# Altium schematic symbol library IFS_Altium.SchLib: 32 symbols
Pins are listed as number, name and electrical type; pins without a type are passive.

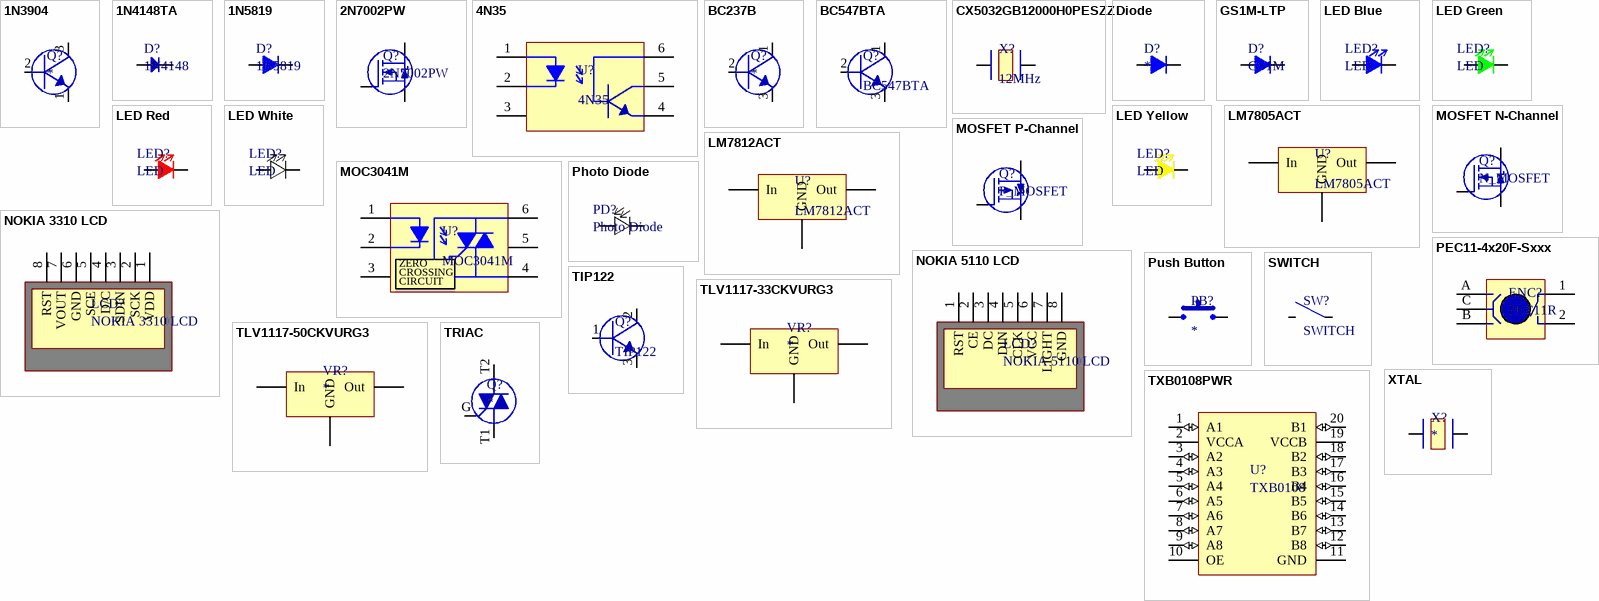
[diagram p0: symbols 1N3904 to XTAL]

## 1N3904
designator Q?
1N3904 NPN Transistor
footprint TO92-2.54 (TO92, 2.54 pitch)
pins: 1, 2, 3

## 1N4148TA
designator D?, comment 1N4148
Diodes - General Purpose, Power, Switching Hi Conductance Fast; Manufacturer: Fairchild Semiconductor; Manufacturer Part Number: 1N4148TA; Configuration: Single; Forward Continuous Current: 0.2 A; Max Surge Current: 4 A; Recovery Time: 4 ns; Forward Voltage Drop: 1 V; Maximum Power Dissipation: 0.5 W; Peak Reverse Voltage: 100 V; Supplier 1: Mouser; RoHS: RoHS Compliant By Exemption; Category: Diodes - General Purpose, Power, Switching; Stock 1: 400430; Pricing 1: 1=0.080, 10=0.041, 100=0.014, 1000=0.010, 5000=0.007, 10000=0.006, 50000=0.005 (EUR); Package/Case: DO-35; Packaging: Ammo; Product: Switching Diodes; Series: 1N4148; Mounting Style: Through Hole; Maximum Operating Temperature: + 175 C; Minimum Operating Temperature: - 65 C; Product Category: Diodes - Small Signal; Standard Pack Qty: 5000; RoHS - Mouser: E; Minimum Order Quantity: 1; Reeling: False; ComponentLink1URL: http://www.fairchildsemi.com/ds/1N/1N4148.pdf; ComponentLink1Description: http://www.fairchildsemi.com/ds/1N/1N4148.pdf
footprint DO-35 Glass (DO-35 Glass 4mils)
pins: 1, 2

## 1N5819
designator D?
Schottky diode
footprint DO-214AC (DO-214AC, SMA)
pins: 1, 2

## 2N7002PW
designator Q?
MOSFET 60V 0.3A N-CHANNEL TRENCH MOSFET; Manufacturer: NXP Semiconductors; Manufacturer Part Number: 2N7002PW,115; Configuration: Single; Continuous Drain Current: 310 mA; Rds On: 1 Ohms; Fall Time: 4 ns; Pd - Power Dissipation: 260 mW; Qg - Gate Charge: 0.6 nC; Typical Turn-Off Delay Time: 10 ns; Vgs - Gate-Source Breakdown Voltage: 20 V; Supplier 1: Mouser; RoHS: RoHS Compliant; Category: MOSFET; Stock 1: 55183; Pricing 1: 1=0.256, 10=0.170, 100=0.071, 1000=0.049, 3000=0.037, 9000=0.031, 24000=0.030, 45000=0.027, 99000=0.024 (EUR); Package/Case: SOT-323; Packaging: Reel; Brand: NXP Semiconductors; Drain-Source Breakdown Voltage: 60 V; Mounting Style: SMD/SMT; Transistor Polarity: N-Channel; Maximum Operating Temperature: + 150 C; Minimum Operating Temperature: - 55 C; Rise Time: 4 ns; Standard Pack Qty: 3000; RoHS - Mouser: Y; Minimum Order Quantity: 1; Reeling: True; ComponentLink1URL: http://www.mouser.com/ds/2/302/2N7002PW-99426.pdf; ComponentLink1Description: http://www.mouser.com/ds/2/302/2N7002PW-99426.pdf; Supplier Part Number 1: 771-2N7002PW-115
footprint SOT323 (SOT323, 3 pins)
pins: 1 G, 2 S, 3 D

## 4N35
designator U?
Transistor Output Optocouplers PTR 100%, 3.5KV; Manufacturer: Lite-On; Input Type: DC; Isolation Voltage: 3550 Vrms; Output Device: NPN Phototransistor; Maximum Collector Current: 100 mA; Maximum Collector Emitter Saturation Voltage: 0.3 V; Maximum Collector Emitter Voltage: 30 V; Maximum Forward Diode Voltage: 1.5 V; Maximum Input Diode Current: 60 mA; Maximum Power Dissipation: 350 mW; Maximum Reverse Diode Voltage: 6 V; Number of Channels per Chip: 1 Channel; Supplier 1: Mouser; Manufacturer Part Number: 4N35; RoHS: RoHS Compliant; Category: Transistor Output Optocouplers; Stock 1: 2201; Pricing 1: 1=0.184, 10=0.160, 50=0.146, 100=0.132, 500=0.114, 1000=0.090, 2000=0.083, 5000=0.075, 10000=0.070 (EUR); Output Type: DC; Package/Case: PDIP-6; Packaging: Tube; Brand: Lite-On; Maximum Operating Temperature: + 100 C; Minimum Operating Temperature: - 55 C; Product Category: Optocomponents; Standard Pack Qty: 65; RoHS - Mouser: Y; Minimum Order Quantity: 1; Reeling: False; ComponentLink1URL: http://optoelectronics.liteon.com/en-us/api/DwonloadFileHandler.ashx?txtSpecNo=DS-70-99-0012; ComponentLink1Description: http://optoelectronics.liteon.com/en-us/api/DwonloadFileHandler.ashx?txtSpecNo=DS-70-99-0012
footprint PDIP6-300
pins: 1 (power), 2, 3, 4, 5, 6

## BC237B
designator Q?
BC237B NPN Transistor
footprint TO92-2.54 (TO92, 2.54 pitch)
pins: 1, 2, 3

## BC547BTA
designator Q?
TRANS NPN 45V 100MA TO-92; Manufacturer: Fairchild Semiconductor; Vce Saturation (Max) @ Ib, Ic: 600mV @ 5mA, 100mA; DC Current Gain (hFE) (Min) @ Ic, Vce: 200 @ 2mA, 5V; Power - Max: 500mW; Frequency - Transition: 300MHz; Supplier 1: Digi-Key; Manufacturer Part Number: BC547BTA; RoHS: RoHS Compliant; Category: Discrete Semiconductor Products; Stock 1: 9639; Pricing 1: 1=0.17, 10=0.156, 25=0.1424, 100=0.1023, 250=0.06028, 500=0.05002, 1000=0.03411 (EUR); Packaging: Cut Tape (CT); Transistor Type: NPN; Current - Collector (Ic) (Max): 100mA; Voltage - Collector Emitter Breakdown (Max): 45V; Current - Collector Cutoff (Max): -; Mounting Type: Through Hole; Package / Case: TO-226-3, TO-92-3 (TO-226AA) Formed Leads; Supplier Device Package: TO-92-3; ComponentLink1URL: http://www.fairchildsemi.com/datasheets/BC/BC546.pdf; ComponentLink1Description: http://www.fairchildsemi.com/datasheets/BC/BC546.pdf
footprint TO92-2.54 (TO92, 2.54 pitch)
pins: 1, 2, 3

## CX5032GB12000H0PESZZ
designator X?, comment 12MHz
Crystals 12000kHz 12pF; Manufacturer: AVX; Manufacturer Part Number: CX5032GB12000H0PESZZ; Frequency Stability: 20 PPM; Supplier 1: Mouser; RoHS: RoHS Compliant; Category: Crystals; Stock 1: 14120; Pricing 1: 1=2.05, 10=1.28, 100=0.945, 500=0.824, 1000=0.817, 2000=0.743 (AUD); Dimensions: 3.2 mm W x 5 mm L x 1 mm H; Frequency: 12 MHz; Load Capacitance: 12 pF; Operating Temperature Range: - 10 C to + 70 C; Package / Case: 5 mm x 3.2 mm; Packaging: Reel; Series: CX5032GB; Termination Style: SMD/SMT; Tolerance: 20 PPM; Brand: AVX; Mounting Style: SMD/SMT; Product Category: SMD Crystal; Standard Pack Qty: 1000; RoHS - Mouser: Y; Minimum Order Quantity: 1; Reeling: True; ComponentLink1URL: http://www.mouser.com/ds/2/40/102_e-5609.pdf; ComponentLink1Description: http://www.mouser.com/ds/2/40/102_e-5609.pdf
footprint 2-SMD
pins: 1, 2

## Diode
designator D?
Diode, generic
pins: 1, 2

## GS1M-LTP
designator D?, comment GS1M
Rectifiers 1000V,1A; Manufacturer: Micro Commercial Components (MCC); Manufacturer Part Number: GS1M-LTP; Max Surge Current: 30 A; Reverse Current IR: 10 uA; Supplier 1: Mouser; RoHS: RoHS Compliant; Category: Rectifiers; Stock 1: 14430; Pricing 1: 1=0.224, 10=0.148, 100=0.062, 1000=0.042, 5000=0.032, 7500=0.027, 22500=0.026, 45000=0.024, 97500=0.021 (EUR); Package/Case: DO-214AC; Packaging: Reel; Product: Standard Recovery Rectifiers; Series: GS1M; Forward Continuous Current: 1 A; Mounting Style: SMD/SMT; Reverse Voltage: 1000 V; Maximum Operating Temperature: + 150 C; RoHS - Mouser: Y; Minimum Order Quantity: 1; Reeling: True; ComponentLink1URL: http://www.mouser.com/ds/2/258/GS1A-GS1M(HSMA)-8668.pdf; ComponentLink1Description: http://www.mouser.com/ds/2/258/GS1A-GS1M(HSMA)-8668.pdf
footprint DO-214AC (DO-214AC, SMA)
pins: 1, 2

## LED Blue
designator LED?, comment LED
LED Blue
footprint LED Blue 3mm TH V
pins: 1, 2

## LED Green
designator LED?, comment LED
LED Green
footprint LED Green 3mm TH V
pins: 1, 2

## LED Red
designator LED?, comment LED
LED Red
footprint LED Red 3mm TH V
pins: 1, 2

## LED White
designator LED?, comment LED
LED White
footprint LED White 3mm TH V
pins: 1, 2

## LED Yellow
designator LED?, comment LED
LED Yellow
footprint LED Yellow 3mm TH V
pins: 1, 2

## LM7805ACT
designator U?
IC REG LDO 5V 1A TO220-3; Manufacturer: Fairchild Semiconductor; Regulator Topology: Positive Fixed; Voltage - Dropout (Typical): 2V @ 1A; Number of Regulators: 1; Voltage - Input: Up to 35V; Supplier 1: Digi-Key; Manufacturer Part Number: LM7805ACT; RoHS: RoHS Compliant; Category: Integrated Circuits (ICs); Stock 1: 2136; Pricing 1: 1=0.57, 10=0.481, 25=0.4208, 100=0.3607, 250=0.31264, 500=0.26454, 1000=0.20442, 2500=0.18638, 5000=0.17436 (EUR); Packaging: Tube; Voltage - Output: 5V; Current - Output: 1A; Current - Limit (Min): -; Operating Temperature: 0°C ~ 125°C; Mounting Type: Through Hole; Package / Case: TO-220-3; Supplier Device Package: TO-220-3; ComponentLink1URL: http://www.fairchildsemi.com/datasheets/LM/LM7805.pdf; ComponentLink1Description: http://www.fairchildsemi.com/datasheets/LM/LM7805.pdf
footprint TO220-3 (TO220, 3 Pins)
pins: 1 In (power), 2 GND (power), 3 Out (power)

## LM7812ACT
designator U?
IC REG LDO 12V 1A TO220-3; Manufacturer: Fairchild Semiconductor; Regulator Topology: Positive Fixed; Voltage - Dropout (Typical): 2V @ 1A; Number of Regulators: 1; Voltage - Input: Up to 35V; Supplier 1: Digi-Key; Manufacturer Part Number: LM7812ACT; RoHS: RoHS Compliant; Category: Integrated Circuits (ICs); Stock 1: 5681; Pricing 1: 1=0.59, 10=0.493, 25=0.4312, 100=0.3697, 250=0.3204, 500=0.27108, 1000=0.20947, 2500=0.19099, 5000=0.17867 (EUR); Packaging: Tube; Voltage - Output: 12V; Current - Output: 1A; Current - Limit (Min): -; Operating Temperature: 0°C ~ 125°C; Mounting Type: Through Hole; Package / Case: TO-220-3; Supplier Device Package: TO-220-3; ComponentLink1URL: http://www.fairchildsemi.com/datasheets/LM/LM7805.pdf; ComponentLink1Description: http://www.fairchildsemi.com/datasheets/LM/LM7805.pdf
footprint TO220-3 (TO220, 3 Pins)
pins: 1 In (power), 2 GND (power), 3 Out (power)

## MOC3041M
designator U?
Triac & SCR Output Optocouplers DIP-6 ZERO TRIAC; Manufacturer: Fairchild Semiconductor; Isolation Voltage: 5250 Vrms; Output Device: PhotoTriac; Output Type: AC; Forward Current: 60 mA; Forward Voltage: 1.25 V; Power Dissipation: 250 mW; Maximum Trigger Current: 15 mA; Number of Channels per Chip: 1 Channel; Off-state Output Voltage - VDRM: 400 V; Zero-Crossing Circuit: With Zero-Crossing Circuit; Zero-Crossing Voltage: 20 V; Supplier 1: Mouser; Manufacturer Part Number: MOC3041M; RoHS: RoHS Compliant; Category: Triac & SCR Output Optocouplers; Stock 1: 3450; Pricing 1: 1=0.672, 10=0.520, 100=0.336, 1000=0.269, 5000=0.226, 10000=0.218, 25000=0.210, 50000=0.206 (EUR); Package/Case: PDIP-6; Packaging: Bulk; Series: MOC3041M; Brand: Fairchild Semiconductor; Maximum Operating Temperature: + 85 C; Minimum Operating Temperature: - 40 C; Standard Pack Qty: 1000; RoHS - Mouser: Y; Minimum Order Quantity: 1; Reeling: False; ComponentLink1URL: http://www.mouser.com/ds/2/149/MOC3041M-195885.pdf; ComponentLink1Description: http://www.mouser.com/ds/2/149/MOC3041M-195885.pdf
footprint PDIP6-300-W (PDIP6-300 White)
pins: 1 (power), 2, 3, 4, 5, 6
text: ZERO; CROSSING; CIRCUIT

## MOSFET N-Channel
designator Q?, comment N_MOSFET
Generic N-Channel MOSFET
footprint SOT323 (SOT323, 3 pins)
pins: 1 G, 2 S, 3 D

## MOSFET P-Channel
designator Q?, comment P_MOSFET
Generic P-Channel MOSFET
footprint SOT323 (SOT323, 3 pins)
pins: 1 G, 2 S, 3 D

## NOKIA 3310 LCD
designator LCD?
footprint NOKIA 3310 LCD
pins: 1 VDD, 2 SCK, 3 SDIN, 4 D/C, 5 SCE, 6 GND, 7 VOUT, 8 RST

## NOKIA 5110 LCD
designator LCD?
footprint NOKIA 5110 LCD
pins: 1 RST, 2 CE, 3 DC, 4 DIN, 5 CLK, 6 VCC, 7 LIGHT, 8 GND

## PEC11-4x20F-Sxxx
designator ENC?, comment PEC11R
Encoders 20mm SHAFT w/SWITCH; Manufacturer: Bourns; Manufacturer Part Number: PEC11R-4220F-S0024; Number of Detents: 24; Output: Quadrature; Resolution: 24 PPR; With Switch: Switch; Number of Channels: 2 Channel; Shaft Type: Flatted; Product Status: New Product; Supplier 1: Mouser; RoHS: RoHS Compliant; Category: Encoders; Stock 1: 746; Pricing 1: 1=1.18, 10=0.968, 50=0.848, 100=0.734, 250=0.729, 500=0.715 (EUR); Operating Temperature Range: - 30 C to + 70 C; Packaging: Bulk; Product: Mechanical Encoders; Series: PEC11R; Type: Incremental; Brand: Bourns; Product Category: Encoders; Standard Pack Qty: 75; RoHS - Mouser: Y; Minimum Order Quantity: 1; Reeling: False; ComponentLink1URL: http://www.bourns.com/data/global/pdfs/PEC11R.pdf; ComponentLink1Description: http://www.bourns.com/data/global/pdfs/PEC11R.pdf
footprint PEC11-4x20F-Sxxx (Incrmental Encoder with momentary puch switch)
pins: 1, 2, A, B, C, GND (power) hidden to GND

## Photo Diode
designator PD?
footprint LED White 3mm TH V
pins: 1, 2

## Push Button
designator PB?
Push Button
footprint Tack Switch 6x6 1mm TH (Tack Switch 6x6mm, 1mm button height TH)
pins: 1, 2

## SWITCH
designator SW?
Switch, generic
footprint 1x2x5.08 Pin Header TH V
pins: 1, 2

## TIP122
designator Q?
TRANS NPN DARL 100V 5A TO-220; Manufacturer: Fairchild Semiconductor; Transistor Type: NPN - Darlington; Vce Saturation (Max) @ Ib, Ic: 4V @ 20mA, 5A; Current - Collector Cutoff (Max): 500µA; DC Current Gain (hFE) (Min) @ Ic, Vce: 1000 @ 3A, 3V; Power - Max: 2W; Supplier 1: Digi-Key; Manufacturer Part Number: TIP122; RoHS: RoHS Compliant; Category: Discrete Semiconductor Products; Stock 1: 2150; Pricing 1: 1=0.56, 10=0.487, 25=0.4312, 100=0.3756, 250=0.32688, 500=0.2782, 1000=0.22256, 2500=0.2017, 5000=0.18778 (EUR); Packaging: Bulk; Current - Collector (Ic) (Max): 5A; Voltage - Collector Emitter Breakdown (Max): 100V; Frequency - Transition: -; Mounting Type: Through Hole; Package / Case: TO-220-3; Supplier Device Package: TO-220; ComponentLink1URL: http://www.fairchildsemi.com/datasheets/TI/TIP122.pdf; ComponentLink1Description: http://www.fairchildsemi.com/datasheets/TI/TIP122.pdf
footprint TO220-3 (TO220, 3 Pins)
pins: 1, 2, 3

## TLV1117-33CKVURG3
designator VR?
LDO Voltage Regulators Sgl Output LDO 800mA Fixed Int Crnt limit; Manufacturer: Texas Instruments; Input Bias Current - Max: 5 mA; Input Voltage MAX: 15 V; Number of Outputs: 1 Output; Output Voltage: 3.3 V; Dropout Voltage - Max: 1.2 V at 100 mA, 1.25 V at 500 mA, 1.3 V at 800 mA; Input Voltage MIN: + 4.7 V; Line Regulation: 0.2 %; Load Regulation: 0.4 %; Supplier 1: Mouser; RoHS: RoHS Compliant; Category: LDO Voltage Regulators; Stock 1: 2731; Pricing 1: 1=0.624, 10=0.496, 100=0.370, 500=0.272, 1000=0.248, 2500=0.210, 10000=0.202 (EUR); Output Current: 800 mA; Output Type: Fixed; Package/Case: TO-252-3; Packaging: Reel; Series: TLV1117-33; Mounting Style: SMD/SMT; Maximum Operating Temperature: + 125 C; Minimum Operating Temperature: 0 C; Product Category: Regulators - Standard; Standard Pack Qty: 2500; RoHS - Mouser: Y; Minimum Order Quantity: 1; Reeling: True; ComponentLink1URL: http://www.ti.com/litv/slvs561k; ComponentLink1Description: http://www.ti.com/litv/slvs561k; Supplier Part Number 1: 595-TLV111733CKVURG3
footprint TO252-2 (TO252, 2 Pins)
pins: 1 GND, 2 Out, 3 In

## TLV1117-50CKVURG3
designator VR?
LDO Voltage Regulators Sgl Output LDO 800mA Fixed Int Crnt limit; Manufacturer: Texas Instruments; Manufacturer Part Number: TLV1117-50CKVURG3; Input Bias Current - Max: 5 mA; Input Voltage MAX: 15 V; Number of Outputs: 1 Output; Output Voltage: 5 V; Dropout Voltage - Max: 1.2 V at 100 mA, 1.25 V at 500 mA, 1.3 V at 800 mA; Input Voltage MIN: + 6.4 V; Line Regulation: 0.2 %; Load Regulation: 0.4 %; Supplier 1: Mouser; RoHS: RoHS Compliant; Category: LDO Voltage Regulators; Stock 1: 3405; Pricing 1: 1=0.624, 10=0.496, 100=0.370, 500=0.272, 1000=0.248, 2500=0.210, 10000=0.202 (EUR); Output Current: 800 mA; Output Type: Fixed; Package/Case: TO-252-3; Packaging: Reel; Series: TLV1117-50; Brand: Texas Instruments; Mounting Style: SMD/SMT; Maximum Operating Temperature: + 125 C; Minimum Operating Temperature: 0 C; Product Category: Regulators - Standard; Standard Pack Qty: 2500; RoHS - Mouser: Y; Minimum Order Quantity: 1; Reeling: True; ComponentLink1URL: http://www.ti.com/litv/slvs561k; ComponentLink1Description: http://www.ti.com/litv/slvs561k
footprint TO252-2 (TO252, 2 Pins)
pins: 1 GND, 2 Out, 3 In

## TRIAC
designator Q?
TRIAC, Generic
pins: G, T1, T2

## TXB0108PWR
designator U?, comment TXB0108
Translation - Voltage Levels 8-Bit Bi-directional; Manufacturer: Texas Instruments; Manufacturer Part Number: TXB0108PWR; Propagation Delay Time: 9.5 ns; Supply Voltage - Max: 3.6 V, 5.5 V; Supply Voltage - Min: 1.2 V, 1.65 V; Supplier 1: Mouser; RoHS: RoHS Compliant; Category: Translation - Voltage Levels; Stock 1: 31241; Pricing 1: 1=1.84, 10=1.66, 25=1.44, 50=1.35, 100=1.34, 250=1.18, 500=1.01, 750=0.904, 1000=0.832, 2000=0.832 (EUR); Package/Case: TSSOP-20; Packaging: Reel; Series: TXB0108; Brand: Texas Instruments; Mounting Style: SMD/SMT; Maximum Operating Temperature: + 85 C; Minimum Operating Temperature: - 40 C; Product Category: Logic - Voltage Level Translation; Standard Pack Qty: 2000; RoHS - Mouser: Y; Minimum Order Quantity: 1; Reeling: True; ComponentLink1URL: http://www.mouser.com/ds/2/405/sces643e-127095.pdf; ComponentLink1Description: http://www.mouser.com/ds/2/405/sces643e-127095.pdf
footprint TSSOP20
pins: 1 A1 (io), 2 VCCA (power), 3 A2 (io), 4 A3 (io), 5 A4 (io), 6 A5 (io), 7 A6 (io), 8 A7 (io), 9 A8 (io), 10 OE, 11 GND (power), 12 B8 (io), 13 B7 (io), 14 B6 (io), 15 B5 (io), 16 B4 (io), 17 B3 (io), 18 B2 (io), 19 VCCB (power), 20 B1 (io)

## XTAL
designator X?
Crystal, Generic
footprint HC-49U (HC-49U XTAL)
footprint HC-49US (HC-49US XTAL)
footprint HC-49US - SMD (HC-49US XTAL)
footprint Cilindrical-H-SMD (Cilindrical canned XTAL, Horizontal, SMD)
footprint 2-SMD
pins: 1, 2